# Altium footprint library Diod.PcbLib: 392 footprints (part 19 of 25)
Each footprint in its own frame and in the unit in brackets; x right, y up, seen from the top. Pads: shape width x height; smd on the part's side, far side on the other; paste and mask are expansions set on the pad; w line width, h text height; cw(c..) or ccw(c..) is an arc to the next point about the centre after c.
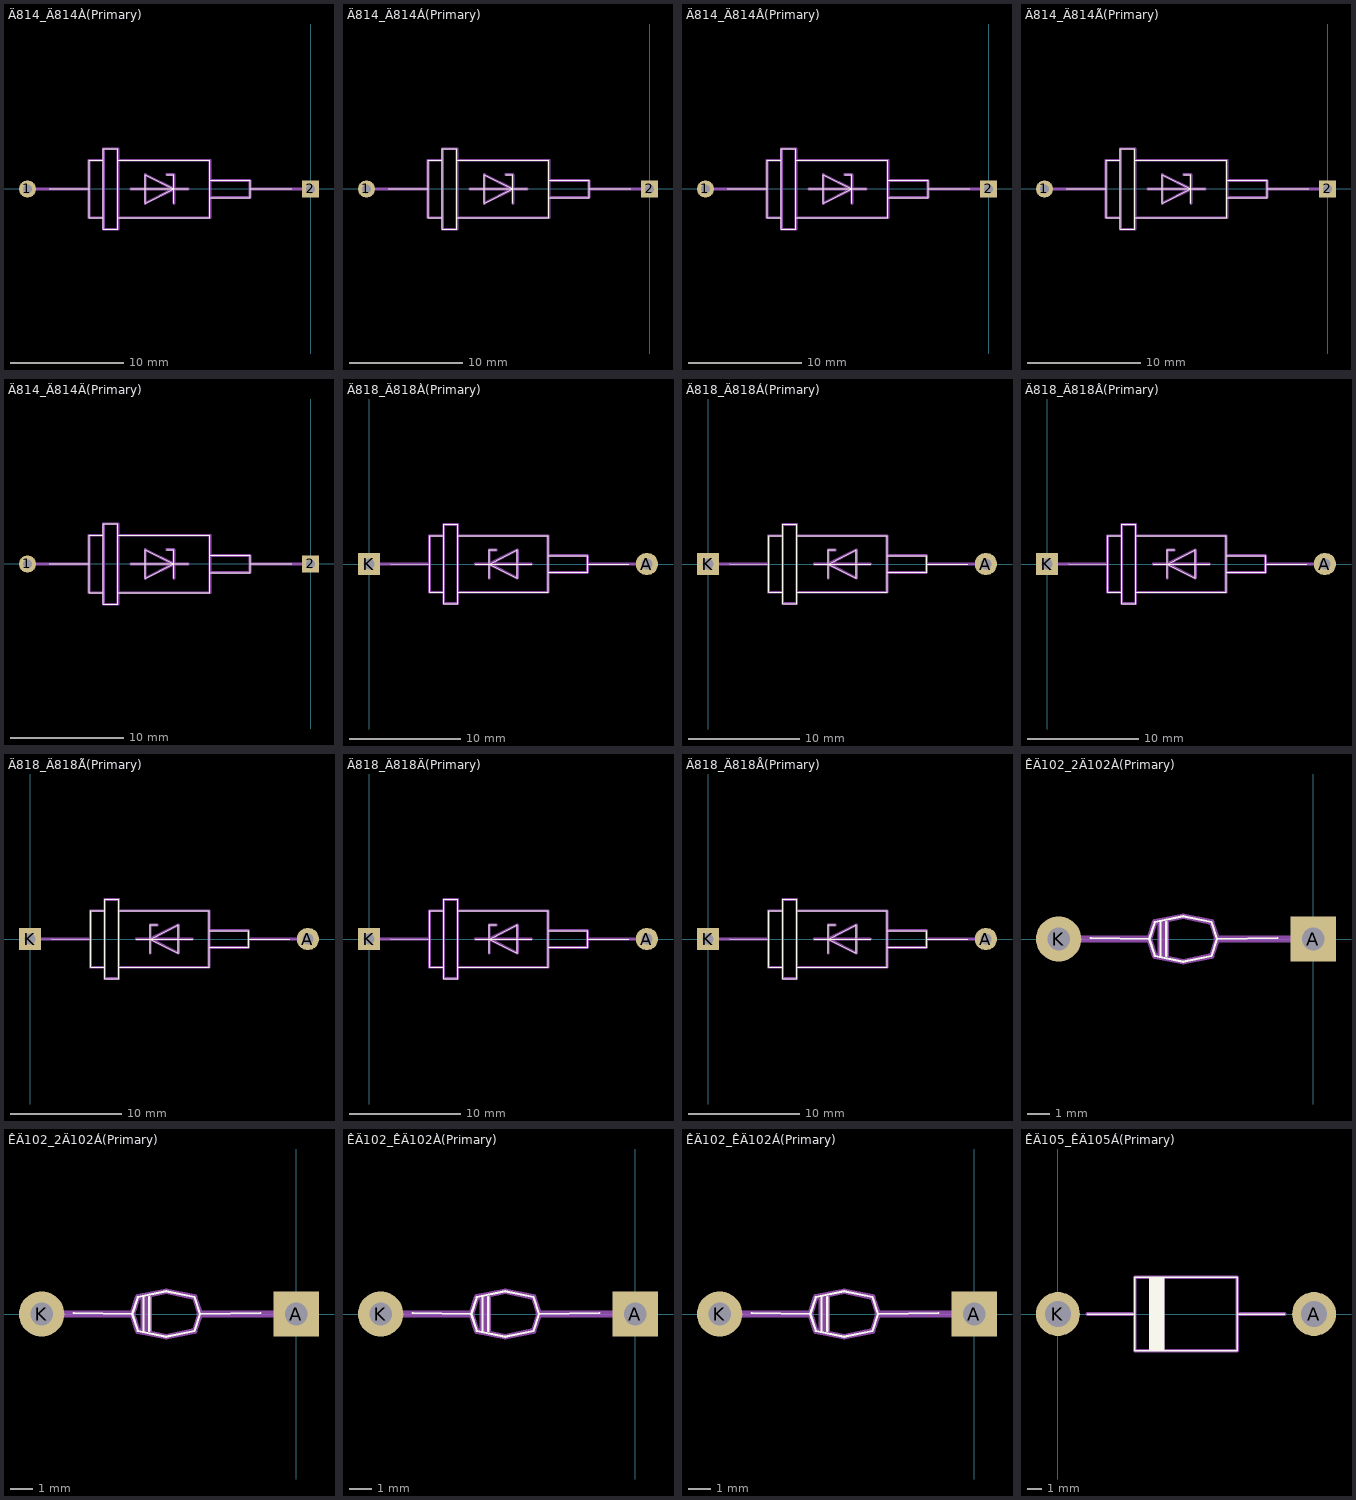
[diagram p18: the footprints below, top view; thin cyan lines are the x and y axes]

## Ä814_Ä814À(Primary) [mm]
pads (2):
  round 1.5 hole 0.8: 1(-25,0)
  rect 1.5x1.5 hole 0.8: 2(0,0)
Top Overlay:
  lines w0.1: -23.058,0.008 -19.558,0 ; -18.288,-2.54 -19.558,-2.54 -19.558,2.54 -18.288,2.54 ; -17.018,-2.54 -8.89,-2.54 -8.89,2.54 -17.018,2.54 ; -15.875,0 -10.795,0 ; -12.7,1.27 -12.065,1.27 -12.065,-1.27 ; -8.89,-0.762 -5.334,-0.762 -5.334,0.762 -8.89,0.762 ; -5.334,0 -1.642,0 ; -18.288,-3.556 -18.288,3.556 -17.018,3.556 -17.018,-3.556 -18.288,-3.556 ; -14.605,-1.27 -12.065,0 -14.605,1.27 -14.605,-1.27
Mechanical 1:
  lines w0.25: -25.004,0 -19.558,0 ; -18.288,-2.54 -19.558,-2.54 -19.558,2.54 -18.288,2.54 ; -17.018,-2.54 -8.89,-2.54 -8.89,2.54 -17.018,2.54 ; -15.875,0 -10.795,0 ; -12.7,1.27 -12.065,1.27 -12.065,-1.27 ; -8.89,-0.762 -5.334,-0.762 -5.334,0.762 -8.89,0.762 ; -5.334,0 0,0 ; -18.288,-3.556 -18.288,3.556 -17.018,3.556 -17.018,-3.556 -18.288,-3.556 ; -14.605,-1.27 -12.065,0 -14.605,1.27 -14.605,-1.27

## Ä814_Ä814Á(Primary) [mm]
pads (2):
  round 1.5 hole 0.8: 1(-25,0)
  rect 1.5x1.5 hole 0.8: 2(0,0)
Top Overlay:
  lines w0.1: -23.058,0.008 -19.558,0 ; -18.288,-2.54 -19.558,-2.54 -19.558,2.54 -18.288,2.54 ; -17.018,-2.54 -8.89,-2.54 -8.89,2.54 -17.018,2.54 ; -15.875,0 -10.795,0 ; -12.7,1.27 -12.065,1.27 -12.065,-1.27 ; -8.89,-0.762 -5.334,-0.762 -5.334,0.762 -8.89,0.762 ; -5.334,0 -1.642,0 ; -18.288,-3.556 -18.288,3.556 -17.018,3.556 -17.018,-3.556 -18.288,-3.556 ; -14.605,-1.27 -12.065,0 -14.605,1.27 -14.605,-1.27
Mechanical 1:
  lines w0.25: -25.004,0 -19.558,0 ; -18.288,-2.54 -19.558,-2.54 -19.558,2.54 -18.288,2.54 ; -17.018,-2.54 -8.89,-2.54 -8.89,2.54 -17.018,2.54 ; -15.875,0 -10.795,0 ; -12.7,1.27 -12.065,1.27 -12.065,-1.27 ; -8.89,-0.762 -5.334,-0.762 -5.334,0.762 -8.89,0.762 ; -5.334,0 0,0 ; -18.288,-3.556 -18.288,3.556 -17.018,3.556 -17.018,-3.556 -18.288,-3.556 ; -14.605,-1.27 -12.065,0 -14.605,1.27 -14.605,-1.27

## Ä814_Ä814Â(Primary) [mm]
pads (2):
  round 1.5 hole 0.8: 1(-25,0)
  rect 1.5x1.5 hole 0.8: 2(0,0)
Top Overlay:
  lines w0.1: -23.058,0.008 -19.558,0 ; -18.288,-2.54 -19.558,-2.54 -19.558,2.54 -18.288,2.54 ; -17.018,-2.54 -8.89,-2.54 -8.89,2.54 -17.018,2.54 ; -15.875,0 -10.795,0 ; -12.7,1.27 -12.065,1.27 -12.065,-1.27 ; -8.89,-0.762 -5.334,-0.762 -5.334,0.762 -8.89,0.762 ; -5.334,0 -1.642,0 ; -18.288,-3.556 -18.288,3.556 -17.018,3.556 -17.018,-3.556 -18.288,-3.556 ; -14.605,-1.27 -12.065,0 -14.605,1.27 -14.605,-1.27
Mechanical 1:
  lines w0.25: -25.004,0 -19.558,0 ; -18.288,-2.54 -19.558,-2.54 -19.558,2.54 -18.288,2.54 ; -17.018,-2.54 -8.89,-2.54 -8.89,2.54 -17.018,2.54 ; -15.875,0 -10.795,0 ; -12.7,1.27 -12.065,1.27 -12.065,-1.27 ; -8.89,-0.762 -5.334,-0.762 -5.334,0.762 -8.89,0.762 ; -5.334,0 0,0 ; -18.288,-3.556 -18.288,3.556 -17.018,3.556 -17.018,-3.556 -18.288,-3.556 ; -14.605,-1.27 -12.065,0 -14.605,1.27 -14.605,-1.27

## Ä814_Ä814Ã(Primary) [mm]
pads (2):
  round 1.5 hole 0.8: 1(-25,0)
  rect 1.5x1.5 hole 0.8: 2(0,0)
Top Overlay:
  lines w0.1: -23.058,0.008 -19.558,0 ; -18.288,-2.54 -19.558,-2.54 -19.558,2.54 -18.288,2.54 ; -17.018,-2.54 -8.89,-2.54 -8.89,2.54 -17.018,2.54 ; -15.875,0 -10.795,0 ; -12.7,1.27 -12.065,1.27 -12.065,-1.27 ; -8.89,-0.762 -5.334,-0.762 -5.334,0.762 -8.89,0.762 ; -5.334,0 -1.642,0 ; -18.288,-3.556 -18.288,3.556 -17.018,3.556 -17.018,-3.556 -18.288,-3.556 ; -14.605,-1.27 -12.065,0 -14.605,1.27 -14.605,-1.27
Mechanical 1:
  lines w0.25: -25.004,0 -19.558,0 ; -18.288,-2.54 -19.558,-2.54 -19.558,2.54 -18.288,2.54 ; -17.018,-2.54 -8.89,-2.54 -8.89,2.54 -17.018,2.54 ; -15.875,0 -10.795,0 ; -12.7,1.27 -12.065,1.27 -12.065,-1.27 ; -8.89,-0.762 -5.334,-0.762 -5.334,0.762 -8.89,0.762 ; -5.334,0 0,0 ; -18.288,-3.556 -18.288,3.556 -17.018,3.556 -17.018,-3.556 -18.288,-3.556 ; -14.605,-1.27 -12.065,0 -14.605,1.27 -14.605,-1.27

## Ä814_Ä814Ä(Primary) [mm]
pads (2):
  round 1.5 hole 0.8: 1(-25,0)
  rect 1.5x1.5 hole 0.8: 2(0,0)
Top Overlay:
  lines w0.1: -23.058,0.008 -19.558,0 ; -18.288,-2.54 -19.558,-2.54 -19.558,2.54 -18.288,2.54 ; -17.018,-2.54 -8.89,-2.54 -8.89,2.54 -17.018,2.54 ; -15.875,0 -10.795,0 ; -12.7,1.27 -12.065,1.27 -12.065,-1.27 ; -8.89,-0.762 -5.334,-0.762 -5.334,0.762 -8.89,0.762 ; -5.334,0 -1.642,0 ; -18.288,-3.556 -18.288,3.556 -17.018,3.556 -17.018,-3.556 -18.288,-3.556 ; -14.605,-1.27 -12.065,0 -14.605,1.27 -14.605,-1.27
Mechanical 1:
  lines w0.25: -25.004,0 -19.558,0 ; -18.288,-2.54 -19.558,-2.54 -19.558,2.54 -18.288,2.54 ; -17.018,-2.54 -8.89,-2.54 -8.89,2.54 -17.018,2.54 ; -15.875,0 -10.795,0 ; -12.7,1.27 -12.065,1.27 -12.065,-1.27 ; -8.89,-0.762 -5.334,-0.762 -5.334,0.762 -8.89,0.762 ; -5.334,0 0,0 ; -18.288,-3.556 -18.288,3.556 -17.018,3.556 -17.018,-3.556 -18.288,-3.556 ; -14.605,-1.27 -12.065,0 -14.605,1.27 -14.605,-1.27

## Ä818_Ä818À(Primary) [mm]
pads (2):
  round 2 hole 1: A(25,0)
  rect 2x2 hole 1: K(0,0)
Top Overlay:
  lines w0.1: 1.942,0.008 5.442,0 ; 6.712,-2.54 5.442,-2.54 5.442,2.54 6.712,2.54 ; 7.982,-2.54 16.11,-2.54 16.11,2.54 7.982,2.54 ; 9.545,0 14.625,0 ; 10.815,-1.27 10.815,1.27 11.45,1.27 ; 16.11,-0.762 19.666,-0.762 19.666,0.762 16.11,0.762 ; 19.666,0 23.358,0 ; 6.712,-3.556 6.712,3.556 7.982,3.556 7.982,-3.556 6.712,-3.556 ; 10.815,0 13.355,-1.27 13.355,1.27 10.815,0
Mechanical 1:
  lines w0.25: -0.004,0 5.442,0 ; 6.712,-2.54 5.442,-2.54 5.442,2.54 6.712,2.54 ; 7.982,-2.54 16.11,-2.54 16.11,2.54 7.982,2.54 ; 9.545,0 14.625,0 ; 10.815,-1.27 10.815,1.27 11.45,1.27 ; 16.11,-0.762 19.666,-0.762 19.666,0.762 16.11,0.762 ; 19.666,0 25,0 ; 6.712,-3.556 6.712,3.556 7.982,3.556 7.982,-3.556 6.712,-3.556 ; 10.815,0 13.355,-1.27 13.355,1.27 10.815,0

## Ä818_Ä818Á(Primary) [mm]
pads (2):
  round 2 hole 1: A(25,0)
  rect 2x2 hole 1: K(0,0)
Top Overlay:
  lines w0.1: 1.942,0.008 5.442,0 ; 6.712,-2.54 5.442,-2.54 5.442,2.54 6.712,2.54 ; 7.982,-2.54 16.11,-2.54 16.11,2.54 7.982,2.54 ; 9.545,0 14.625,0 ; 10.815,-1.27 10.815,1.27 11.45,1.27 ; 16.11,-0.762 19.666,-0.762 19.666,0.762 16.11,0.762 ; 19.666,0 23.358,0 ; 6.712,-3.556 6.712,3.556 7.982,3.556 7.982,-3.556 6.712,-3.556 ; 10.815,0 13.355,-1.27 13.355,1.27 10.815,0
Mechanical 1:
  lines w0.25: -0.004,0 5.442,0 ; 6.712,-2.54 5.442,-2.54 5.442,2.54 6.712,2.54 ; 7.982,-2.54 16.11,-2.54 16.11,2.54 7.982,2.54 ; 9.545,0 14.625,0 ; 10.815,-1.27 10.815,1.27 11.45,1.27 ; 16.11,-0.762 19.666,-0.762 19.666,0.762 16.11,0.762 ; 19.666,0 25,0 ; 6.712,-3.556 6.712,3.556 7.982,3.556 7.982,-3.556 6.712,-3.556 ; 10.815,0 13.355,-1.27 13.355,1.27 10.815,0

## Ä818_Ä818Â(Primary) [mm]
pads (2):
  round 2 hole 1: A(25,0)
  rect 2x2 hole 1: K(0,0)
Top Overlay:
  lines w0.1: 1.942,0.008 5.442,0 ; 6.712,-2.54 5.442,-2.54 5.442,2.54 6.712,2.54 ; 7.982,-2.54 16.11,-2.54 16.11,2.54 7.982,2.54 ; 9.545,0 14.625,0 ; 10.815,-1.27 10.815,1.27 11.45,1.27 ; 16.11,-0.762 19.666,-0.762 19.666,0.762 16.11,0.762 ; 19.666,0 23.358,0 ; 6.712,-3.556 6.712,3.556 7.982,3.556 7.982,-3.556 6.712,-3.556 ; 10.815,0 13.355,-1.27 13.355,1.27 10.815,0
Mechanical 1:
  lines w0.25: -0.004,0 5.442,0 ; 6.712,-2.54 5.442,-2.54 5.442,2.54 6.712,2.54 ; 7.982,-2.54 16.11,-2.54 16.11,2.54 7.982,2.54 ; 9.545,0 14.625,0 ; 10.815,-1.27 10.815,1.27 11.45,1.27 ; 16.11,-0.762 19.666,-0.762 19.666,0.762 16.11,0.762 ; 19.666,0 25,0 ; 6.712,-3.556 6.712,3.556 7.982,3.556 7.982,-3.556 6.712,-3.556 ; 10.815,0 13.355,-1.27 13.355,1.27 10.815,0

## Ä818_Ä818Ã(Primary) [mm]
pads (2):
  round 2 hole 1: A(25,0)
  rect 2x2 hole 1: K(0,0)
Top Overlay:
  lines w0.1: 1.942,0.008 5.442,0 ; 6.712,-2.54 5.442,-2.54 5.442,2.54 6.712,2.54 ; 7.982,-2.54 16.11,-2.54 16.11,2.54 7.982,2.54 ; 9.545,0 14.625,0 ; 10.815,-1.27 10.815,1.27 11.45,1.27 ; 16.11,-0.762 19.666,-0.762 19.666,0.762 16.11,0.762 ; 19.666,0 23.358,0 ; 6.712,-3.556 6.712,3.556 7.982,3.556 7.982,-3.556 6.712,-3.556 ; 10.815,0 13.355,-1.27 13.355,1.27 10.815,0
Mechanical 1:
  lines w0.25: -0.004,0 5.442,0 ; 6.712,-2.54 5.442,-2.54 5.442,2.54 6.712,2.54 ; 7.982,-2.54 16.11,-2.54 16.11,2.54 7.982,2.54 ; 9.545,0 14.625,0 ; 10.815,-1.27 10.815,1.27 11.45,1.27 ; 16.11,-0.762 19.666,-0.762 19.666,0.762 16.11,0.762 ; 19.666,0 25,0 ; 6.712,-3.556 6.712,3.556 7.982,3.556 7.982,-3.556 6.712,-3.556 ; 10.815,0 13.355,-1.27 13.355,1.27 10.815,0

## Ä818_Ä818Ä(Primary) [mm]
pads (2):
  round 2 hole 1: A(25,0)
  rect 2x2 hole 1: K(0,0)
Top Overlay:
  lines w0.1: 1.942,0.008 5.442,0 ; 6.712,-2.54 5.442,-2.54 5.442,2.54 6.712,2.54 ; 7.982,-2.54 16.11,-2.54 16.11,2.54 7.982,2.54 ; 9.545,0 14.625,0 ; 10.815,-1.27 10.815,1.27 11.45,1.27 ; 16.11,-0.762 19.666,-0.762 19.666,0.762 16.11,0.762 ; 19.666,0 23.358,0 ; 6.712,-3.556 6.712,3.556 7.982,3.556 7.982,-3.556 6.712,-3.556 ; 10.815,0 13.355,-1.27 13.355,1.27 10.815,0
Mechanical 1:
  lines w0.25: -0.004,0 5.442,0 ; 6.712,-2.54 5.442,-2.54 5.442,2.54 6.712,2.54 ; 7.982,-2.54 16.11,-2.54 16.11,2.54 7.982,2.54 ; 9.545,0 14.625,0 ; 10.815,-1.27 10.815,1.27 11.45,1.27 ; 16.11,-0.762 19.666,-0.762 19.666,0.762 16.11,0.762 ; 19.666,0 25,0 ; 6.712,-3.556 6.712,3.556 7.982,3.556 7.982,-3.556 6.712,-3.556 ; 10.815,0 13.355,-1.27 13.355,1.27 10.815,0

## Ä818_Ä818Å(Primary) [mm]
pads (2):
  round 2 hole 1: A(25,0)
  rect 2x2 hole 1: K(0,0)
Top Overlay:
  lines w0.1: 1.942,0.008 5.442,0 ; 6.712,-2.54 5.442,-2.54 5.442,2.54 6.712,2.54 ; 7.982,-2.54 16.11,-2.54 16.11,2.54 7.982,2.54 ; 9.545,0 14.625,0 ; 10.815,-1.27 10.815,1.27 11.45,1.27 ; 16.11,-0.762 19.666,-0.762 19.666,0.762 16.11,0.762 ; 19.666,0 23.358,0 ; 6.712,-3.556 6.712,3.556 7.982,3.556 7.982,-3.556 6.712,-3.556 ; 10.815,0 13.355,-1.27 13.355,1.27 10.815,0
Mechanical 1:
  lines w0.25: -0.004,0 5.442,0 ; 6.712,-2.54 5.442,-2.54 5.442,2.54 6.712,2.54 ; 7.982,-2.54 16.11,-2.54 16.11,2.54 7.982,2.54 ; 9.545,0 14.625,0 ; 10.815,-1.27 10.815,1.27 11.45,1.27 ; 16.11,-0.762 19.666,-0.762 19.666,0.762 16.11,0.762 ; 19.666,0 25,0 ; 6.712,-3.556 6.712,3.556 7.982,3.556 7.982,-3.556 6.712,-3.556 ; 10.815,0 13.355,-1.27 13.355,1.27 10.815,0

## ÊÄ102_2Ä102À(Primary) [mm]
pads (2):
  rect 2x2 hole 1: A(0,0)
  round 2 hole 1: K(-11.25,0)
Top Overlay:
  lines w0.1: -9.83,0.04 -7.25,0 ; -6.75,-0.75 -6.75,0.75 ; -6.5,-0.75 -6.5,0.75 ; -1.58,0.04 -4.25,0 ; -7.25,0 -7,-0.75 -5.75,-1 -4.5,-0.75 -4.25,0 ; -7.25,0 -7,0.75 -5.75,1 -4.5,0.75 -4.25,0
Mechanical 1:
  lines w0.25: -6.75,-0.75 -6.75,0.75 ; -6.5,-0.75 -6.5,0.75 ; -7.25,0 -7,-0.75 -5.75,-1 -4.5,-0.75 -4.25,0 -4.5,0.75 -5.75,1 -7,0.75 -7.25,0
  lines w0.3: -10.75,0 -7.25,0 ; -4.25,0 -0.75,0

## ÊÄ102_2Ä102Á(Primary) [mm]
pads (2):
  rect 2x2 hole 1: A(0,0)
  round 2 hole 1: K(-11.25,0)
Top Overlay:
  lines w0.1: -9.83,0.04 -7.25,0 ; -6.75,-0.75 -6.75,0.75 ; -6.5,-0.75 -6.5,0.75 ; -1.58,0.04 -4.25,0 ; -7.25,0 -7,-0.75 -5.75,-1 -4.5,-0.75 -4.25,0 ; -7.25,0 -7,0.75 -5.75,1 -4.5,0.75 -4.25,0
Mechanical 1:
  lines w0.25: -6.75,-0.75 -6.75,0.75 ; -6.5,-0.75 -6.5,0.75 ; -7.25,0 -7,-0.75 -5.75,-1 -4.5,-0.75 -4.25,0 -4.5,0.75 -5.75,1 -7,0.75 -7.25,0
  lines w0.3: -10.75,0 -7.25,0 ; -4.25,0 -0.75,0

## ÊÄ102_ÊÄ102À(Primary) [mm]
pads (2):
  rect 2x2 hole 1: A(0,0)
  round 2 hole 1: K(-11.25,0)
Top Overlay:
  lines w0.1: -9.83,0.04 -7.25,0 ; -6.75,-0.75 -6.75,0.75 ; -6.5,-0.75 -6.5,0.75 ; -1.58,0.04 -4.25,0 ; -7.25,0 -7,-0.75 -5.75,-1 -4.5,-0.75 -4.25,0 ; -7.25,0 -7,0.75 -5.75,1 -4.5,0.75 -4.25,0
Mechanical 1:
  lines w0.25: -6.75,-0.75 -6.75,0.75 ; -6.5,-0.75 -6.5,0.75 ; -7.25,0 -7,-0.75 -5.75,-1 -4.5,-0.75 -4.25,0 -4.5,0.75 -5.75,1 -7,0.75 -7.25,0
  lines w0.3: -10.75,0 -7.25,0 ; -4.25,0 -0.75,0

## ÊÄ102_ÊÄ102Á(Primary) [mm]
pads (2):
  rect 2x2 hole 1: A(0,0)
  round 2 hole 1: K(-11.25,0)
Top Overlay:
  lines w0.1: -9.83,0.04 -7.25,0 ; -6.75,-0.75 -6.75,0.75 ; -6.5,-0.75 -6.5,0.75 ; -1.58,0.04 -4.25,0 ; -7.25,0 -7,-0.75 -5.75,-1 -4.5,-0.75 -4.25,0 ; -7.25,0 -7,0.75 -5.75,1 -4.5,0.75 -4.25,0
Mechanical 1:
  lines w0.25: -6.75,-0.75 -6.75,0.75 ; -6.5,-0.75 -6.5,0.75 ; -7.25,0 -7,-0.75 -5.75,-1 -4.5,-0.75 -4.25,0 -4.5,0.75 -5.75,1 -7,0.75 -7.25,0
  lines w0.3: -10.75,0 -7.25,0 ; -4.25,0 -0.75,0

## ÊÄ105_ÊÄ105Á(Primary) [mm]
pads (2):
  round 3 hole 1.8: A(17.5,0) K(0,0)
Top Overlay:
  region: 6.25,-2.5 7.25,-2.5 7.25,2.5 6.25,2.5
  lines w0.1: 2,0 5.25,0 ; 12.25,0 15.5,0 ; 5.25,-2.5 12.25,-2.5 12.25,2.5 5.25,2.5 5.25,-2.5
Mechanical 1:
  region: 6.25,-2.5 7.25,-2.5 7.25,2.5 6.25,2.5
  lines w0.25: 2,0 5.25,0 ; 12.25,0 15.5,0 ; 5.25,-2.5 12.25,-2.5 12.25,2.5 5.25,2.5 5.25,-2.5